# EAGLE library part DS1337S+T&R (library MSSRP-Lib)
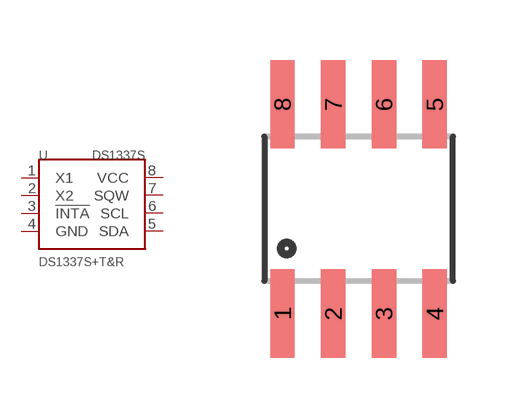
[diagram p0: symbol with the pads of SOIC8; footprint SOIC8]

Designator prefix -

## DS1337S+T&R  [SOIC8]
1  X1  pas
2  X2  pas
3  !INTA
4  GND  pwr
5  SDA
6  SCL
7  SQW
8  VCC  pwr

## Footprint SOIC8 (pad centres in mm)
smd 0.61 x 2.21: 1 -1.905,-2.616; 2 -0.635,-2.616; 3 0.635,-2.616; 4 1.905,-2.616; 5 1.905,2.616; 6 0.635,2.616; 7 -0.635,2.616; 8 -1.905,2.616